# Altium footprint library DeSCENTActive.PcbLib: 28 footprints (part 1 of 2)
Each footprint in its own frame and in the unit in brackets; x right, y up, seen from the top. Pads: shape width x height; smd on the part's side, far side on the other; paste and mask are expansions set on the pad; w line width, h text height; cw(c..) or ccw(c..) is an arc to the next point about the centre after c.
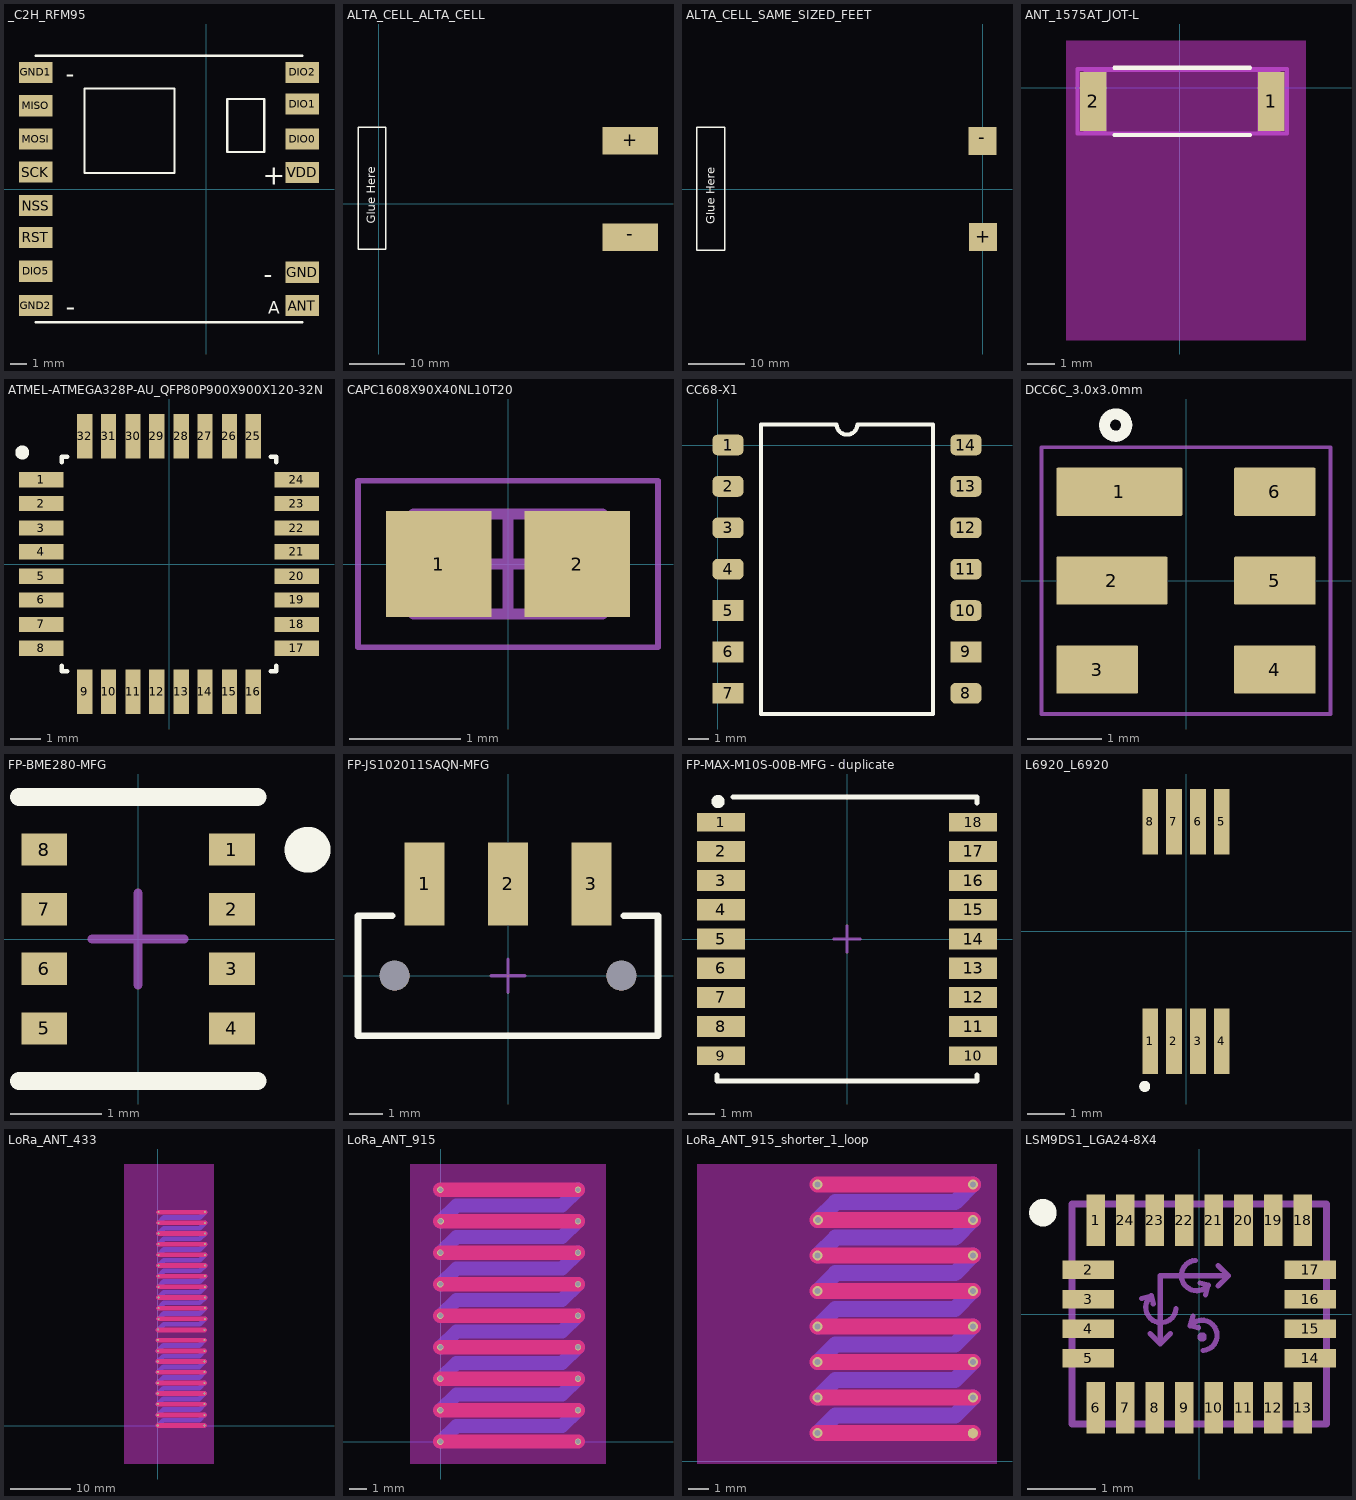
[diagram p0: the footprints below, top view; thin cyan lines are the x and y axes]

## _C2H_RFM95 [mm]
pads (14):
  rect 2x1.27 smd: ANT(5.777,-7) DIO0(5.777,3) DIO1(5.78,5.095) DIO2(5.78,7) DIO5(-10.225,-4.936) GND(5.777,-5) GND1(-10.222,7) GND2(-10.23,-7) MISO(-10.23,5) MOSI(-10.225,3) NSS(-10.222,-1) RST(-10.222,-2.905) SCK(-10.23,1.012) VDD(5.777,1)
Top Overlay:
  lines w0.127: -10.23,-8 5.777,-8 ; -10.23,8 5.777,8 ; -7.302,0.953 -1.905,0.953 -1.905,6.032 -7.302,6.032 -7.302,0.953 ; 1.27,2.222 1.27,5.397 3.492,5.397 3.492,2.222 1.27,2.222
  text "+" at 3.402,0.266 h1.19
  text "A" at 3.732,-7.503 h0.76
  text "-" at 3.465,-5.639 h1.08
  text "-" at -8.42,-7.633 h1.19
  text "-" at -8.433,6.401 h1.08

## ALTA_CELL_ALTA_CELL [mm]
pads (2):
  rect 10x5 smd: +(45.307,11.364) -(45.307,-5.986)
Top Overlay:
  lines w0.254: -3.76,-8.205 1.24,-8.205 1.24,13.795 -3.76,13.795 -3.76,-8.205
  text "Glue Here" at -0.623,-3.563 h1.52

## ALTA_CELL_SAME_SIZED_FEET [mm] "SAME SIZED FEET AND CORRECT POLARITY"
pads (2):
  rect 5x5 smd: +(0.056,-8.603) -(-0.055,8.603)
Top Overlay:
  lines w0.254: -51.122,-10.966 -46.122,-10.966 -46.122,11.034 -51.122,11.034 -51.122,-10.966
  text "Glue Here" at -47.986,-6.324 h1.52

## ANT_1575AT_JOT-L [mm]
height 1.25
pads (2):
  rect 0.963x2.16 smd paste+0 mask+0: 1(3.363,-0.5) 2(-3.163,-0.5)
Top Overlay:
  lines w0.152: -2.385,-1.732 2.585,-1.732 ; -2.385,0.732 2.585,0.732
Keep-Out Layer:
  region: 4.637,-9.263 4.637,1.737 -4.163,1.737 -4.163,-9.263
Mechanical 13:
  circle w0: c3.236,-0.5 r0.076
  lines w0.025: -3.494,-1.605 -3.494,0.605 ; -3.494,-1.605 -2.681,-1.605 -2.681,0.605 -3.494,0.605 ; -3.494,-1.605 -3.494,0.605 ; -3.494,0.605 3.694,0.605 ; 3.694,-1.605 2.881,-1.605 2.881,0.605 3.694,0.605 ; 3.694,-1.605 3.694,0.605 ; 3.694,-1.605 3.694,0.605
Mechanical 15:
  lines w0.152: -3.746,-1.682 3.946,-1.682 3.946,0.681 -3.746,0.681 -3.746,-1.682

## ATMEL-ATMEGA328P-AU_QFP80P900X900X120-32N [mil]
height 49.21
pads (32):
  rect 58x20 smd: 1(-167,110) 2(-167,79) 3(-167,47) 4(-167,16) 5(-167,-16) 6(-167,-47) 7(-167,-79) 8(-167,-110) 17(167,-110) 18(167,-79) 19(167,-47) 20(167,-16) 21(167,16) 22(167,47) 23(167,79) 24(167,110)
  rect 20x58 smd: 9(-110,-167) 10(-79,-167) 11(-47,-167) 12(-16,-167) 13(16,-167) 14(47,-167) 15(79,-167) 16(110,-167) 25(110,167) 26(79,167) 27(47,167) 28(16,167) 29(-16,167) 30(-47,167) 31(-79,167) 32(-110,167)
Top Overlay:
  lines w6: -140,-133 -140,-140 -133,-140 ; -140,133 -140,140 -133,140 ; 133,-140 140,-140 140,-133 ; 133,140 140,140 140,133
  lines w10: -187.79,144.69 cw(c-191.74,145.72) -187.67,146

## CAPC1608X90X40NL10T20 [mm] "Chip Capacitor, 2-Leads, Body 1.70x0.90mm, IPC Medium Density"
height 0.9
pads (2):
  rect 0.95x0.95 smd: 1(-0.625,0) 2(0.625,0)
Mechanical 13:
  lines w0.1: -0.85,-0.45 -0.85,0.45 0.85,0.45 0.85,-0.45 -0.85,-0.45
Mechanical 15:
  lines w0.05: -1.35,-0.75 -1.35,0.75 1.35,0.75 1.35,-0.75 -1.35,-0.75
  lines w0.1: -0.45,0 0.45,0 ; 0,-0.45 0,0.45
3D body "CAPC1608X09N.step": height 0.9, standoff 0, extent -0.85,-0.45 0.85,0.45

## CC68-X1 [mm] "CC68-X1 14 Pin LoRa Module"
pads (14):
  rrect50% 1.5x1 smd: 1(0.5,0) 2(0.5,-2) 3(0.5,-4) 4(0.5,-6) 8(12,-12) 10(12,-8) 11(12,-6) 12(12,-4) 13(12,-2) 14(12,0)
  rect 1.5x1 smd: 5(0.5,-8) 6(0.5,-10) 7(0.5,-12) 9(12,-10)
Top Overlay:
  lines w0.2: 2.085,-13 10.415,-13 10.415,1 6.75,1 cw(c6.25,1) 5.75,1 2.085,1 2.085,-13

## DCC6C_3.0x3.0mm [mm] "DCC6C footprint, 3.0x3.0mm"
height 1.1
pads (6):
  rrect5% 1.7x0.65 smd mask+0.05: 1(-0.9,1.2)
  rrect5% 1.5x0.65 smd mask+0.05: 2(-1,0)
  rrect5% 1.1x0.65 smd mask+0.05: 3(-1.2,-1.2) 4(1.2,-1.2) 5(1.2,0) 6(1.2,1.2)
Top Overlay:
  circle w0.15: c-0.95,2.1 r0.15
Mechanical 15:
  lines w0.05: -1.95,-1.8 -1.95,1.8 1.95,1.8 1.95,-1.8 -1.95,-1.8
3D body: height 1, standoff 0, extent -1.5,-1.5 1.5,1.5

## FP-BME280-MFG [mm]
pads (8):
  rect 0.5x0.35 smd paste+0 mask+0: 1(1.025,0.975) 2(1.025,0.325) 3(1.025,-0.325) 4(1.025,-0.975) 5(-1.025,-0.975) 6(-1.025,-0.325) 7(-1.025,0.325) 8(-1.025,0.975)
Top Overlay:
  circle w0.25: c1.85,0.975 r0.125
  lines w0.2: -1.3,-1.55 1.3,-1.55 ; -1.3,1.55 1.3,1.55
Top Component Center:
  lines w0.1: -0.5,0 0.5,0 ; 0,-0.5 0,0.5

## FP-JS102011SAQN-MFG [mm]
pads (5):
  rect 1.2x2.5 smd paste+0 mask+0: 1(-2.5,2.75) 2(0,2.75) 3(2.5,2.75)
  round 0.9 hole 0.9 unplated paste-2539.97 mask+0: ""(-3.4,0) ""(3.4,0)
Top Overlay:
  lines w0.2: -3.475,1.8 -4.5,1.8 -4.5,-1.8 4.5,-1.8 4.5,1.8 3.475,1.8
Top Component Center:
  lines w0.1: -0.5,0 0.5,0 ; 0,-0.5 0,0.5

## FP-MAX-M10S-00B-MFG - duplicate [mm]
pads (18):
  rect 1.8x0.7 smd paste-1000 mask+0: 1(-4.75,4.4) 9(-4.75,-4.4) 10(4.75,-4.4) 18(4.75,4.4)
  rect 1.8x0.8 smd paste-1000 mask+0: 2(-4.75,3.3) 3(-4.75,2.2) 4(-4.75,1.1) 5(-4.75,0) 6(-4.75,-1.1) 7(-4.75,-2.2) 8(-4.75,-3.3) 11(4.75,-3.3) 12(4.75,-2.2) 13(4.75,-1.1) 14(4.75,0) 15(4.75,1.1) 16(4.75,2.2) 17(4.75,3.3)
Top Overlay:
  circle w0.25: c-4.857,5.177 r0.125
  lines w0.2: -4.9,-5.125 -4.9,-5.35 4.9,-5.35 4.9,-5.125 ; -4.282,5.35 4.9,5.35 4.9,5.125
Top Component Center:
  lines w0.1: -0.5,0 0.5,0 ; 0,-0.5 0,0.5

## L6920_L6920 [mm]
pads (8):
  rect 0.42x1.78 smd: 1(-0.975,-2.97) 2(-0.325,-2.97) 3(0.325,-2.97) 4(0.975,-2.97) 5(0.975,2.97) 6(0.325,2.97) 7(-0.325,2.97) 8(-0.975,2.97)
Top Overlay:
  lines w0.157: -1.048,-4.183 ccw(c-1.118,-4.196) -1.047,-4.196

## LoRa_ANT_433 [mm]
via 7.747,0 diameter 0.35 hole 0.28
via -0.022,0 diameter 0.35 hole 0.28
via 7.747,1.778 diameter 0.35 hole 0.28
via -0.022,1.778 diameter 0.35 hole 0.28
via 7.747,3.556 diameter 0.35 hole 0.28
via -0.022,3.556 diameter 0.35 hole 0.28
via 7.747,5.334 diameter 0.35 hole 0.28
via -0.022,5.334 diameter 0.35 hole 0.28
via 7.747,7.112 diameter 0.35 hole 0.28
via -0.022,7.112 diameter 0.35 hole 0.28
via 7.747,8.89 diameter 0.35 hole 0.28
via -0.022,8.89 diameter 0.35 hole 0.28
via 7.747,10.668 diameter 0.35 hole 0.28
via -0.022,10.668 diameter 0.35 hole 0.28
via 7.747,12.446 diameter 0.35 hole 0.28
via 7.747,14.224 diameter 0.35 hole 0.28
via -0.022,14.224 diameter 0.35 hole 0.28
via 0,16.002 diameter 0.35 hole 0.28
via 0,12.446 diameter 0.35 hole 0.28
via 7.777,15.941 diameter 0.35 hole 0.28
via 7.874,17.78 diameter 0.35 hole 0.28
via 0.105,17.78 diameter 0.35 hole 0.28
via 7.874,19.558 diameter 0.35 hole 0.28
via 0.105,19.558 diameter 0.35 hole 0.28
via 7.874,21.336 diameter 0.35 hole 0.28
via 0.105,21.336 diameter 0.35 hole 0.28
via 7.874,23.114 diameter 0.35 hole 0.28
via 0.105,23.114 diameter 0.35 hole 0.28
via 7.874,24.892 diameter 0.35 hole 0.28
via 0.105,24.892 diameter 0.35 hole 0.28
via 7.874,26.67 diameter 0.35 hole 0.28
via 0.105,26.67 diameter 0.35 hole 0.28
via 7.874,28.448 diameter 0.35 hole 0.28
via 0.105,28.448 diameter 0.35 hole 0.28
via 7.874,30.226 diameter 0.35 hole 0.28
via 0.105,30.226 diameter 0.35 hole 0.28
via 7.874,32.004 diameter 0.35 hole 0.28
via 0.105,32.004 diameter 0.35 hole 0.28
via 7.874,33.782 diameter 0.35 hole 0.28
via 0.105,33.782 diameter 0.35 hole 0.28
via 7.874,35.56 diameter 0.35 hole 0.28
via 0.127,35.56 diameter 0.35 hole 0.28
Top Layer:
  lines w0.8: -0.022,0 7.747,0 ; -0.022,1.778 7.747,1.778 ; -0.022,3.556 7.747,3.556 ; -0.022,5.334 7.747,5.334 ; -0.022,7.112 7.747,7.112 ; -0.022,8.89 7.747,8.89 ; -0.022,10.668 7.747,10.668 ; -0.022,12.446 7.747,12.446 ; -0.022,14.224 7.747,14.224 ; 0.008,15.941 7.777,15.941 ; 0.105,17.78 7.874,17.78 ; 0.105,19.558 7.874,19.558 ; 0.105,21.336 7.874,21.336 ; 0.105,23.114 7.874,23.114 ; 0.105,24.892 7.874,24.892 ; 0.105,26.67 7.874,26.67 ; 0.105,28.448 7.874,28.448 ; 0.105,30.226 7.874,30.226 ; 0.105,32.004 7.874,32.004 ; 0.105,33.782 7.874,33.782 ; 0.105,35.56 7.874,35.56
Bottom Layer:
  lines w0.254: -0.011,0 0,0 ; -0.011,1.778 0,1.778 ; -0.011,3.556 0,3.556 ; -0.011,5.334 0,5.334 ; -0.011,7.112 0,7.112 ; -0.011,8.89 0,8.89 ; -0.011,10.668 0,10.668 ; -0.011,12.446 0,12.446 ; -0.011,14.224 0,14.224 ; 0.116,17.78 0.127,17.78 ; 0.116,19.558 0.127,19.558 ; 0.116,21.336 0.127,21.336 ; 0.116,23.114 0.127,23.114 ; 0.116,24.892 0.127,24.892 ; 0.116,26.67 0.127,26.67 ; 0.116,28.448 0.127,28.448 ; 0.116,30.226 0.127,30.226 ; 0.116,32.004 0.127,32.004 ; 0.116,33.782 0.127,33.782
  lines w0.8: 0,0 0.889,0.889 6.858,0.889 7.747,1.778 ; 0,1.778 0.889,2.667 6.858,2.667 7.747,3.556 ; 0,3.556 0.889,4.445 6.858,4.445 7.747,5.334 ; 0,5.334 0.889,6.223 6.858,6.223 7.747,7.112 ; 0,7.112 0.889,8.001 6.858,8.001 7.747,8.89 ; 0,8.89 0.889,9.779 6.858,9.779 7.747,10.668 ; 0,10.668 0.889,11.557 6.858,11.557 7.747,12.446 ; 0,12.446 0.889,13.335 6.858,13.335 7.747,14.224 ; 0.127,16.002 1.016,16.891 6.985,16.891 7.874,17.78 ; 0.127,17.78 1.016,18.669 6.985,18.669 7.874,19.558 ; 0.127,19.558 1.016,20.447 6.985,20.447 7.874,21.336 ; 0.127,21.336 1.016,22.225 6.985,22.225 7.874,23.114 ; 0.127,23.114 1.016,24.003 6.985,24.003 7.874,24.892 ; 0.127,24.892 1.016,25.781 6.985,25.781 7.874,26.67 ; 0.127,26.67 1.016,27.559 6.985,27.559 7.874,28.448 ; 0.127,28.448 1.016,29.337 6.985,29.337 7.874,30.226 ; 0.127,30.226 1.016,31.115 6.985,31.115 7.874,32.004 ; 0.127,32.004 1.016,32.893 6.985,32.893 7.874,33.782 ; 0.127,33.782 1.016,34.671 6.985,34.671 7.874,35.56
Top Solder:
  lines w0.85: 3.149,14.224 4.699,14.224 ; 3.152,15.942 4.702,15.942
Keep-Out Layer:
  rectangle: -5.653,-6.412 9.347,43.588

## LoRa_ANT_915 [mm]
via 0,12.446 diameter 0.35 hole 0.28
via -0.022,14.224 diameter 0.35 hole 0.28
via 7.747,14.224 diameter 0.35 hole 0.28
via 7.747,12.446 diameter 0.35 hole 0.28
via -0.022,10.668 diameter 0.35 hole 0.28
via 7.747,10.668 diameter 0.35 hole 0.28
via -0.022,8.89 diameter 0.35 hole 0.28
via 7.747,8.89 diameter 0.35 hole 0.28
via -0.022,7.112 diameter 0.35 hole 0.28
via 7.747,7.112 diameter 0.35 hole 0.28
via -0.022,5.334 diameter 0.35 hole 0.28
via 7.747,5.334 diameter 0.35 hole 0.28
via -0.022,3.556 diameter 0.35 hole 0.28
via 7.747,3.556 diameter 0.35 hole 0.28
via -0.022,1.778 diameter 0.35 hole 0.28
via 7.747,1.778 diameter 0.35 hole 0.28
via -0.022,0 diameter 0.35 hole 0.28
via 7.747,0 diameter 0.35 hole 0.28
Top Layer:
  lines w0.8: -0.022,0 7.747,0 ; -0.022,1.778 7.747,1.778 ; -0.022,3.556 7.747,3.556 ; -0.022,5.334 7.747,5.334 ; -0.022,7.112 7.747,7.112 ; -0.022,8.89 7.747,8.89 ; -0.022,10.668 7.747,10.668 ; -0.022,12.446 7.747,12.446 ; -0.022,14.224 7.747,14.224
Bottom Layer:
  lines w0.254: -0.011,0 0,0 ; -0.011,1.778 0,1.778 ; -0.011,3.556 0,3.556 ; -0.011,5.334 0,5.334 ; -0.011,7.112 0,7.112 ; -0.011,8.89 0,8.89 ; -0.011,10.668 0,10.668 ; -0.011,12.446 0,12.446 ; -0.011,14.224 0,14.224
  lines w0.8: 0,0 0.889,0.889 6.858,0.889 7.747,1.778 ; 0,1.778 0.889,2.667 6.858,2.667 7.747,3.556 ; 0,3.556 0.889,4.445 6.858,4.445 7.747,5.334 ; 0,5.334 0.889,6.223 6.858,6.223 7.747,7.112 ; 0,7.112 0.889,8.001 6.858,8.001 7.747,8.89 ; 0,8.89 0.889,9.779 6.858,9.779 7.747,10.668 ; 0,10.668 0.889,11.557 6.858,11.557 7.747,12.446 ; 0,12.446 0.889,13.335 6.858,13.335 7.747,14.224
Top Solder:
  lines w0.85: 3.149,14.224 4.699,14.224
Keep-Out Layer:
  rectangle: -1.745,-1.261 9.347,15.677

## LoRa_ANT_915_shorter_1_loop [mil]
pads (1):
  round 20 smd paste-99999 mask+0: ANT(-200,55)
via -200,475 diameter 19.68 hole 11.81
via -505.87,55 diameter 19.68 hole 11.81
via -200,125 diameter 19.68 hole 11.81
via -505.87,125 diameter 19.68 hole 11.81
via -200,195 diameter 19.68 hole 11.81
via -505.87,195 diameter 19.68 hole 11.81
via -200,265 diameter 19.68 hole 11.81
via -505.87,265 diameter 19.68 hole 11.81
via -200,335 diameter 19.68 hole 11.81
via -505.87,335 diameter 19.68 hole 11.81
via -200,405 diameter 19.68 hole 11.81
via -505.87,405 diameter 19.68 hole 11.81
via -200,545 diameter 19.68 hole 11.81
via -505.87,545 diameter 19.68 hole 11.81
via -505,475 diameter 19.68 hole 11.81
Top Layer:
  lines w31.5: -505.87,55 -200,55 ; -505.87,125 -200,125 ; -505.87,195 -200,195 ; -505.87,265 -200,265 ; -505.87,335 -200,335 ; -505.87,405 -200,405 ; -505.87,475 -200,475 ; -505.87,545 -200,545
Bottom Layer:
  lines w10: -505.43,55 -505,55 ; -505.43,125 -505,125 ; -505.43,195 -505,195 ; -505.43,265 -505,265 ; -505.43,335 -505,335 ; -505.43,405 -505,405 ; -505.43,475 -505,475 ; -505.43,545 -505,545
  lines w31.5: -505,55 -470,90 -235,90 -200,125 ; -505,125 -470,160 -235,160 -200,195 ; -505,195 -470,230 -235,230 -200,265 ; -505,265 -470,300 -235,300 -200,335 ; -505,335 -470,370 -235,370 -200,405 ; -505,405 -470,440 -235,440 -200,475 ; -505,475 -470,510 -235,510 -200,545
Keep-Out Layer:
  rectangle: -743.11,-5.55 -152.56,585

## LSM9DS1_LGA24-8X4 [mm]
pads (24):
  rect 0.27x0.75 smd: 1(-1.505,1.365) 6(-1.505,-1.365) 7(-1.075,-1.365) 8(-0.645,-1.365) 9(-0.215,-1.365) 10(0.215,-1.365) 11(0.645,-1.365) 12(1.075,-1.365) 13(1.505,-1.365) 18(1.505,1.365) 19(1.075,1.365) 20(0.645,1.365) 21(0.215,1.365) 22(-0.215,1.365) 23(-0.645,1.365) 24(-1.075,1.365)
  rect 0.75x0.27 smd: 2(-1.615,0.645) 3(-1.615,0.215) 4(-1.615,-0.215) 5(-1.615,-0.645) 14(1.615,-0.645) 15(1.615,-0.215) 16(1.615,0.215) 17(1.615,0.645)
Top Overlay:
  circle w0.2: c-2.273,1.473 r0.1
Top Courtyard:
  circle w0.076: c0.043,-0.334 r0.028
  lines w0.076: -0.837,0.225 -0.697,0.265 ; -0.717,-0.285 -0.567,-0.435 -0.417,-0.285 ; -0.667,0.145 -0.697,0.265 ; -0.567,-0.432 -0.567,0.556 0.425,0.556 ; -0.337,0.075 cw(c-0.556,0.095) -0.697,0.265 ; -0.09,-0.03 -0.13,-0.17 ; -0.059,0.78 ccw(c-0.038,0.56) 0.131,0.419 ; -0.01,-0.2 -0.13,-0.17 ; 0.011,0.449 0.131,0.419 ; 0.06,-0.53 ccw(c0.04,-0.311) -0.13,-0.17 ; 0.091,0.279 0.131,0.419 ; 0.275,0.406 0.425,0.556 ; 0.275,0.706 0.425,0.556
  lines w0.102: -1.85,-1.6 1.85,-1.6 1.85,1.6 -1.85,1.6 -1.85,-1.6
  text "Y" at -0.571,-0.647 h0.46
  text "Z" at 0.354,0.063 h0.46
  text "X" at 0.603,0.557 h0.46